# Altium footprint library EReference-PCB.PcbLib: 54 footprints (part 3 of 4)
Each footprint in its own frame and in the unit in brackets; x right, y up, seen from the top. Pads: shape width x height; smd on the part's side, far side on the other; paste and mask are expansions set on the pad; w line width, h text height; cw(c..) or ccw(c..) is an arc to the next point about the centre after c.
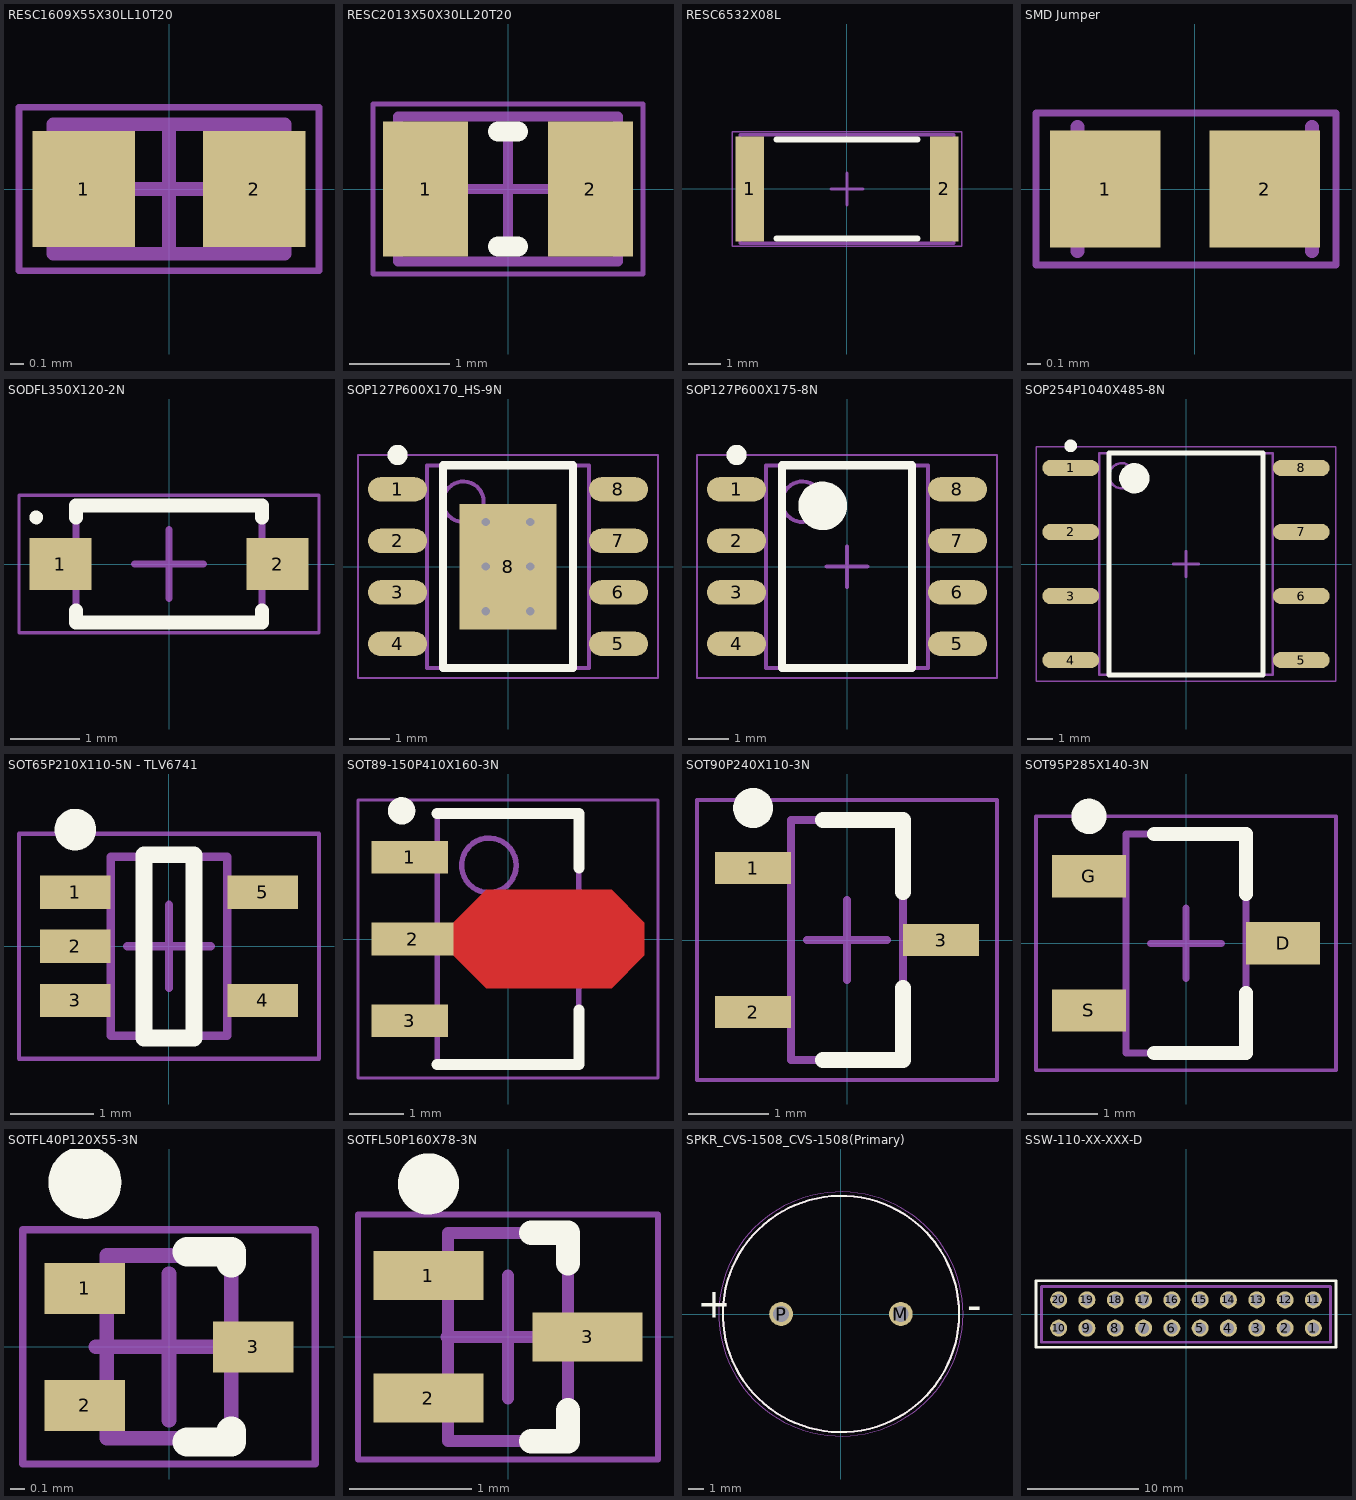
[diagram p2: the footprints below, top view; thin cyan lines are the x and y axes]

## RESC1609X55X30LL10T20 [mm] "Chip Resistor, 2-Leads, Body 1.60x0.85mm, IPC High Density"
height 0.55
pads (2):
  rect 0.75x0.85 smd: 1(-0.625,0) 2(0.625,0)
Assembly:
  lines w0.1: -0.85,-0.475 -0.85,0.475 0.85,0.475 0.85,-0.475 -0.85,-0.475
Mechanical 15:
  lines w0.05: -1.1,-0.6 -1.1,0.6 1.1,0.6 1.1,-0.6 -1.1,-0.6
  lines w0.1: -0.475,0 0.475,0 ; 0,-0.475 0,0.475
3D body: height 0.55, standoff 0, extent -0.55,-0.475 0.55,0.475
3D body: height 0.55, standoff 0, extent -0.85,-0.475 -0.55,0.475
3D body: height 0.55, standoff 0, extent 0.55,-0.475 0.85,0.475

## RESC2013X50X30LL20T20 [mm] "Chip Resistor, 2-Leads, Body 2.00x1.25mm, IPC High Density"
height 0.5
pads (2):
  rect 0.85x1.35 smd: 1(-0.825,0) 2(0.825,0)
Top Overlay:
  lines w0.2: -0.1,-0.575 0.1,-0.575 ; -0.1,0.575 0.1,0.575
Assembly:
  lines w0.1: -1.1,-0.725 1.1,-0.725 1.1,0.725 -1.1,0.725 -1.1,-0.725
Mechanical 15:
  lines w0.05: -1.35,-0.85 1.35,-0.85 1.35,0.85 -1.35,0.85 -1.35,-0.85
  lines w0.1: -0.5,0 0.5,0 ; 0,-0.5 0,0.5
3D body: height 0.5, standoff 0, extent 0.8,-0.725 1.1,0.725
3D body: height 0.5, standoff 0, extent -1.1,-0.725 -0.8,0.725
3D body: height 0.5, standoff 0, extent -0.8,-0.725 0.8,0.725

## RESC6532X08L [mm] "Chip Resistor, 2-Leads, Body 6.50x3.20mm, IPC High Density"
height 0.8
pads (2):
  rect 0.9x3.3 smd: 1(-3.05,0) 2(3.05,0)
Top Overlay:
  lines w0.2: -2.2,-1.55 2.2,-1.55 ; -2.2,1.55 2.2,1.55
Assembly:
  lines w0.1: -3.35,-1.7 3.35,-1.7 3.35,1.7 -3.35,1.7 -3.35,-1.7
Mechanical 15:
  lines w0.05: -3.6,-1.8 3.6,-1.8 3.6,1.8 -3.6,1.8 -3.6,-1.8
  lines w0.1: -0.5,0 0.5,0 ; 0,-0.5 0,0.5
3D body "RESC6532X08L.step": height 0.8, standoff 0, extent -3.35,-1.7 3.35,1.7

## SMD Jumper [mm] "To be used only as a jumper"
pads (2):
  rect 0.8x0.85 smd: 1(-0.65,0) 2(0.508,0)
Assembly:
  lines w0.1: -0.85,-0.45 -0.85,0.45 ; 0.85,-0.45 0.85,0.45
Mechanical 15:
  lines w0.05: -1.15,-0.55 -1.15,0.55 1.023,0.55 1.023,0.275 1.023,-0.275 1.023,-0.55 -1.15,-0.55

## SODFL350X120-2N [mm] "SODFL, 2-Leads, Body 1.60x3.50mm, IPC Medium Density"
height 1.2
pads (2):
  rect 0.9x0.75 smd: 1(-1.575,0) 2(1.575,0)
Top Overlay:
  circle w0.1: c-1.925,0.675 r0.05
  lines w0.2: -1.35,-0.675 -1.35,-0.85 1.35,-0.85 1.35,-0.675 ; -1.35,0.675 -1.35,0.85 1.35,0.85 1.35,0.675
Assembly:
  lines w0.1: -1.35,-0.85 1.35,-0.85 1.35,0.85 -1.35,0.85 -1.35,-0.85
Mechanical 15:
  lines w0.05: -2.175,-1 2.175,-1 2.175,1 -2.175,1 -2.175,-1
  lines w0.1: -0.5,0 0.5,0 ; 0,-0.5 0,0.5
3D body "SODFL350X120-2N.step": height 1.2, standoff 0, extent -1.75,-0.85 1.75,0.85

## SOP127P600X170_HS-9N [mm] "SOP, 8-Leads, Body 4.90x3.90mm, Pitch 1.27mm, Thermal Pad 3.10x2.40mm, IPC Medium Density"
height 1.7
pads (9):
  oval 1.45x0.6 smd: 1(-2.725,1.905) 2(-2.725,0.635) 3(-2.725,-0.635) 4(-2.725,-1.905) 5(2.725,-1.905) 6(2.725,-0.635) 7(2.725,0.635) 8(2.725,1.905)
  rect 2.4x3.1 smd: 8(0,0)
via -0.55,1.1 diameter 0.5 hole 0.2
via 0.55,1.1 diameter 0.5 hole 0.2
via -0.55,0 diameter 0.5 hole 0.2
via 0.55,0 diameter 0.5 hole 0.2
via -0.55,-1.1 diameter 0.5 hole 0.2
via 0.55,-1.1 diameter 0.5 hole 0.2
Top Overlay:
  circle w0.25: c-2.725,2.755 r0.125
  lines w0.2: -1.6,-2.5 -1.6,2.5 1.6,2.5 1.6,-2.5 -1.6,-2.5
Assembly:
  circle w0.1: c-1.1,1.6 r0.5
  lines w0.1: -2,-2.5 -2,2.5 2,2.5 2,-2.5 -2,-2.5
Mechanical 15:
  lines w0.05: -3.7,-2.75 -3.7,2.75 3.7,2.75 3.7,-2.75 -3.7,-2.75
  lines w0.1: -0.5,0 0.5,0 ; 0,-0.5 0,0.5
3D body "SOP127P600X170_HS-9N.step": height 1.7, standoff 0, extent -3,-2.5 3,2.5

## SOP127P600X175-8N [mm] "SOP, 8-Leads, Body 4.90x3.90mm, Pitch 1.27mm, IPC Medium Density"
height 1.75
pads (8):
  oval 1.45x0.6 smd: 1(-2.725,1.905) 2(-2.725,0.635) 3(-2.725,-0.635) 4(-2.725,-1.905) 5(2.725,-1.905) 6(2.725,-0.635) 7(2.725,0.635) 8(2.725,1.905)
Top Overlay:
  circle w0.6: c-0.6,1.5 r0.3
  circle w0.25: c-2.725,2.755 r0.125
  lines w0.2: -1.6,-2.5 1.6,-2.5 1.6,2.5 -1.6,2.5 -1.6,-2.5
Assembly:
  circle w0.1: c-1.1,1.6 r0.5
  lines w0.1: -2,-2.5 2,-2.5 2,2.5 -2,2.5 -2,-2.5
Mechanical 15:
  lines w0.05: -3.7,-2.75 3.7,-2.75 3.7,2.75 -3.7,2.75 -3.7,-2.75
  lines w0.1: -0.5,0 0.5,0 ; 0,-0.5 0,0.5
3D body "SOP127P600X175-8N.step": height 1.75, standoff 0, extent -3,-2.5 3,2.5

## SOP254P1040X485-8N [mm] "SOP, 8-Leads, Body 9.15x6.62mm, Pitch 2.54mm, IPC Medium Density"
height 4.85
pads (8):
  oval 2.25x0.65 smd: 1(-4.575,3.81) 2(-4.575,1.27) 3(-4.575,-1.27) 4(-4.575,-3.81) 5(4.575,-3.81) 6(4.575,-1.27) 7(4.575,1.27) 8(4.575,3.81)
Top Overlay:
  circle w0.25: c-4.575,4.685 r0.125
  circle w0.6: c-2.05,3.4 r0.3
  lines w0.2: -3.05,-4.4 -3.05,4.4 3.05,4.4 3.05,-4.4 -3.05,-4.4
Assembly:
  circle w0.1: c-2.55,3.5 r0.5
  lines w0.1: -3.45,-4.4 -3.45,4.4 3.45,4.4 3.45,-4.4 -3.45,-4.4
Mechanical 15:
  lines w0.05: -5.95,-4.65 -5.95,4.65 5.95,4.65 5.95,-4.65 -5.95,-4.65
  lines w0.1: -0.5,0 0.5,0 ; 0,-0.5 0,0.5
3D body "SOP254P1040X485-8N.step": height 4.85, standoff 0, extent -5.2,-4.4 5.2,4.4

## SOT65P210X110-5N - TLV6741 [mm] "SOT23, 5-Leads, Body 2.00x2.10mm, Pitch 0.65mm, IPC Medium Density"
height 1.1
pads (5):
  rect 0.85x0.4 smd: 1(-1.125,0.65) 2(-1.125,0) 3(-1.125,-0.65) 4(1.125,-0.65) 5(1.125,0.65)
Top Overlay:
  circle w0.25: c-1.125,1.4 r0.125
  lines w0.2: -0.3,-1.1 0.3,-1.1 0.3,1.1 -0.3,1.1 -0.3,-1.1
Assembly:
  lines w0.1: -0.7,-1.075 -0.7,1.075 0.7,1.075 0.7,-1.075 -0.7,-1.075
Mechanical 15:
  lines w0.05: -1.8,-1.35 -1.8,1.35 1.8,1.35 1.8,-1.35 -1.8,-1.35
  lines w0.1: -0.5,0 0.5,0 ; 0,-0.5 0,0.5
3D body "SOT65P210X110-5N - TLV6741.step": height 1.1, standoff 0, extent -1.2,-1.075 1.2,1.075

## SOT89-150P410X160-3N [mm] "SOT89, 3-Leads, Body 4.50x2.50mm, Pitch 1.50mm, Lead Span 4.1mm, IPC Medium Density"
height 1.6
pads (3):
  rect 1.4x0.6 smd: 1(-1.8,1.5) 3(-1.8,-1.5)
  rect 1.5x0.6 smd: 2(-1.75,0)
Top Layer:
  region: -1,0.3 -0.4,0.9 1.9,0.9 2.5,0.3 2.5,-0.3 1.9,-0.9 -0.4,-0.9 -1,-0.3
Top Overlay:
  circle w0.25: c-1.95,2.35 r0.125
  lines w0.2: -1.3,-2.3 1.3,-2.3 1.3,-1.3 ; -1.3,2.3 1.3,2.3 1.3,1.3
Assembly:
  circle w0.1: c-0.35,1.35 r0.5
  lines w0.1: -1.3,-2.3 1.3,-2.3 1.3,2.3 -1.3,2.3 -1.3,-2.3
Mechanical 15:
  lines w0.05: -2.75,-2.55 2.75,-2.55 2.75,2.55 -2.75,2.55 -2.75,-2.55
  lines w0.1: -0.5,0 0.5,0 ; 0,-0.5 0,0.5
3D body "SOT89-150P410X160-3N.step": height 1.6, standoff 0, extent -2.2,-2.297 2.1,2.297

## SOT90P240X110-3N [mm] "SOT23, 3-Leads, Body 2.90x2.40mm, Pitch 0.90mm, IPC Medium Density"
height 1.1
pads (3):
  rect 0.95x0.4 smd: 1(-1.175,0.9) 2(-1.175,-0.9) 3(1.175,0)
Top Overlay:
  circle w0.25: c-1.175,1.65 r0.125
  lines w0.2: -0.3,-1.5 0.7,-1.5 0.7,-0.6 ; -0.3,1.5 0.7,1.5 0.7,0.6
Assembly:
  lines w0.1: -0.7,-1.5 0.7,-1.5 0.7,1.5 -0.7,1.5 -0.7,-1.5
Mechanical 15:
  lines w0.05: -1.875,-1.75 1.875,-1.75 1.875,1.75 -1.875,1.75 -1.875,-1.75
  lines w0.1: -0.5,0 0.5,0 ; 0,-0.5 0,0.5
3D body "SOT90P240X110-3N.step": height 1.1, standoff 0, extent -1.25,-1.5 1.25,1.5

## SOT95P285X140-3N [mm] "SOT23, 3-Leads, Body 3.00x2.85mm, Pitch 0.95mm, IPC Medium Density"
height 1.4
pads (3):
  rect 1.05x0.6 smd: D(1.375,0) G(-1.375,0.95) S(-1.375,-0.95)
Top Overlay:
  circle w0.25: c-1.375,1.8 r0.125
  lines w0.2: -0.45,-1.55 0.85,-1.55 0.85,-0.7 ; -0.45,1.55 0.85,1.55 0.85,0.7
Assembly:
  lines w0.1: -0.85,-1.55 0.85,-1.55 0.85,1.55 -0.85,1.55 -0.85,-1.55
Mechanical 15:
  lines w0.05: -2.125,-1.8 2.125,-1.8 2.125,1.8 -2.125,1.8 -2.125,-1.8
  lines w0.1: -0.5,0 0.5,0 ; 0,-0.5 0,0.5
3D body: height 1.4, standoff 0.01, extent -0.85,-1.55 0.85,1.55

## SOTFL40P120X55-3N [mm] "SOTFL, 3-Leads, Body 1.20x1.20mm, Pitch 0.40mm, IPC Medium Density"
height 0.55
pads (3):
  rect 0.55x0.35 smd: 1(-0.575,0.4) 2(-0.575,-0.4) 3(0.575,0)
Top Overlay:
  circle w0.25: c-0.575,1.125 r0.125
  lines w0.2: 0.125,-0.65 0.425,-0.65 0.425,-0.575 ; 0.125,0.65 0.425,0.65 0.425,0.575
Assembly:
  lines w0.1: -0.425,-0.625 -0.425,0.625 0.425,0.625 0.425,-0.625 -0.425,-0.625
Mechanical 15:
  lines w0.05: -1,-0.8 -1,0.8 1,0.8 1,-0.8 -1,-0.8
  lines w0.1: -0.5,0 0.5,0 ; 0,-0.5 0,0.5
3D body "SOTFL40P120X55-3N.step": height 0.55, standoff 0, extent -0.6,-0.623 0.6,0.623

## SOTFL50P160X78-3N [mm] "SOTFL, 3-Leads, Body 1.60x1.60mm, Pitch 0.50mm, IPC Medium Density"
height 0.78
pads (3):
  rect 0.9x0.4 smd: 1(-0.65,0.5) 2(-0.65,-0.5) 3(0.65,0)
Top Overlay:
  circle w0.25: c-0.65,1.25 r0.125
  lines w0.2: 0.19,-0.85 0.49,-0.85 0.49,-0.6 ; 0.19,0.85 0.49,0.85 0.49,0.6
Assembly Top:
  lines w0.1: -0.49,-0.85 0.49,-0.85 0.49,0.85 -0.49,0.85 -0.49,-0.85
Courtyard Top:
  lines w0.05: -1.225,-1 1.225,-1 1.225,1 -1.225,1 -1.225,-1
  lines w0.1: -0.5,0 0.5,0 ; 0,-0.5 0,0.5
3D body "SOTFL50P160X78-3N.step": height 0.78, standoff 0, extent -0.8,-0.848 0.8,0.848

## SPKR_CVS-1508_CVS-1508(Primary) [mm]
pads (2):
  round 1.508 hole 1: M(3.8,0) P(-3.8,0)
Top Overlay:
  circle w0.127: c0,0 r7.5
  text "-" at 8.031,-0.377 h1.88
  text "+" at -9.137,-0.25 h1.88
Mechanical 4:
  circle w0.127: c0,0 r7.5
  circle w0.127: c0,0 r7.5
Mechanical 16:
  circle w0.05: c0,0 r7.75

## SSW-110-XX-XXX-D [mil]
pads (20):
  round 60 hole 40 mask+3: 1(450,-50) 2(350,-50) 3(250,-50) 4(150,-50) 5(50,-50) 6(-50,-50) 7(-150,-50) 8(-250,-50) 9(-350,-50) 10(-450,-50) 11(450,50) 12(350,50) 13(250,50) 14(150,50) 15(50,50) 16(-50,50) 17(-150,50) 18(-250,50) 19(-350,50) 20(-450,50)
Top Overlay:
  lines w10: -530,-117.5 530,-117.5 530,117.5 -530,117.5 -530,-117.5
Mechanical 1:
  lines w10: -510,-100 510,-100 510,97.5 -510,97.5 -510,-100
  text "J1" at -7.57,-5.79 h30
3D body "SSW-110-23-F-D.stp": height 335, standoff -394, extent -509.99,-93.99 510.01,101.01